# EAGLE library part SN74LVC2T45 (library joakim)
SN74LVC2T45 Dual-bit dual-supply bus transceiver with configurable voltage translation and 3-state outputs Single-direction 3.3V to 5V / 5V to 3.3V voltage translator
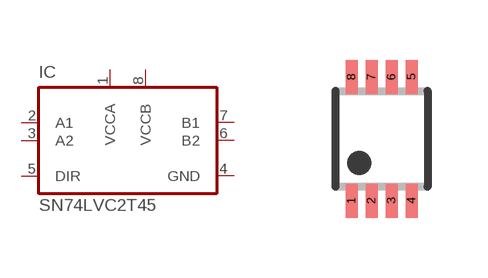
[diagram p91: symbol with the pads of VSSOP8J; footprint VSSOP8J]

Designator prefix IC

## SN74LVC2T45  [VSSOP8J]
1  VCCA  pwr
2  A1
3  A2
4  GND  pwr
5  DIR
6  B2
7  B1
8  VCCB  pwr

## Footprint VSSOP8J (pad centres in mm)
VSSOP-8 Source: https://www.ti.com/lit/ml/mpds050e/mpds050e.pdf (TI VSSOP, DCU0008A)
smd 0.3 x 0.85: 1 -0.75,-1.55; 2 -0.25,-1.55; 3 0.25,-1.55; 4 0.75,-1.55; 5 0.75,1.55; 6 0.25,1.55; 7 -0.25,1.55; 8 -0.75,1.55